# Altium footprint library HUD-LED-V3.2.PcbLib: 30 footprints (part 2 of 2)
Each footprint in its own frame and in the unit in brackets; x right, y up, seen from the top. Pads: shape width x height; smd on the part's side, far side on the other; paste and mask are expansions set on the pad; w line width, h text height; cw(c..) or ccw(c..) is an arc to the next point about the centre after c.
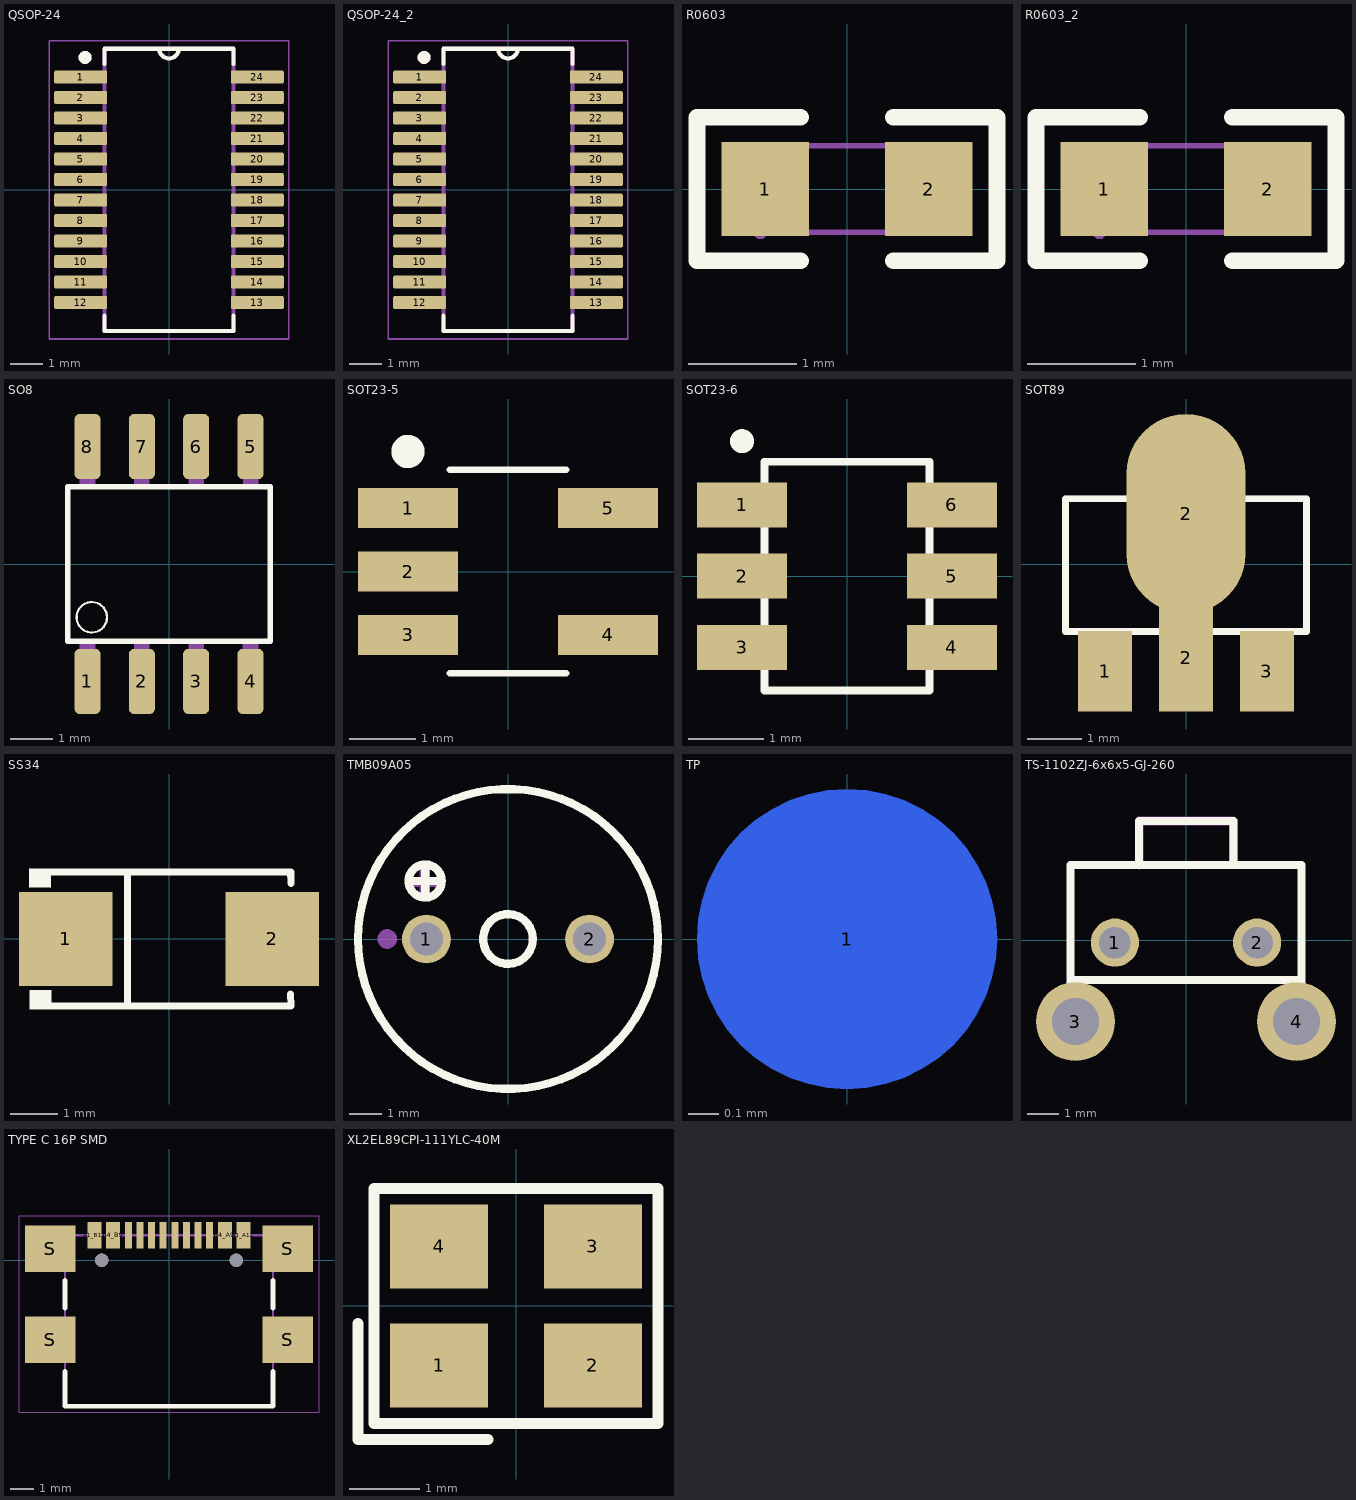
[diagram p1: the footprints below, top view; thin cyan lines are the x and y axes]

## QSOP-24 [mm]
pads (24):
  rrect25% 1.64x0.41 smd: 1(-2.735,3.492) 2(-2.735,2.857) 3(-2.735,2.222) 4(-2.735,1.587) 5(-2.735,0.953) 6(-2.735,0.318) 7(-2.735,-0.318) 8(-2.735,-0.953) 9(-2.735,-1.587) 10(-2.735,-2.222) 11(-2.735,-2.857) 12(-2.735,-3.492) 13(2.735,-3.492) 14(2.735,-2.857) 15(2.735,-2.222) 16(2.735,-1.587) 17(2.735,-0.953) 18(2.735,-0.318) 19(2.735,0.318) 20(2.735,0.953) 21(2.735,1.587) 22(2.735,2.222) 23(2.735,2.857) 24(2.735,3.492)
Top Overlay:
  circle w0.2: c-2.6,4.1 r0.1
  lines w0.127: -1.995,-3.9 -1.995,-4.37 1.995,-4.37 1.995,-3.9 ; -1.995,3.9 -1.995,4.37 1.995,4.37 1.995,3.9 ; -0.301,4.37 ccw(c0,4.37) 0.301,4.37
Mechanical 13:
  circle w0.2: c-2.6,4.1 r0.1
  lines w0.127: -1.995,-4.37 -1.995,4.37 1.995,4.37 1.995,-4.37 -1.995,-4.37
Mechanical 15:
  lines w0.05: -3.705,-4.62 -3.705,4.62 3.705,4.62 3.705,-4.62 -3.705,-4.62
3D body "step_temp.STEP": height 1.75, standoff 0, extent -3.01,-4.325 3.01,4.325

## QSOP-24_2 [mm]
pads (24):
  rrect25% 1.64x0.41 smd: 1(-2.735,3.492) 2(-2.735,2.857) 3(-2.735,2.222) 4(-2.735,1.587) 5(-2.735,0.953) 6(-2.735,0.318) 7(-2.735,-0.318) 8(-2.735,-0.953) 9(-2.735,-1.587) 10(-2.735,-2.222) 11(-2.735,-2.857) 12(-2.735,-3.492) 13(2.735,-3.492) 14(2.735,-2.857) 15(2.735,-2.222) 16(2.735,-1.587) 17(2.735,-0.953) 18(2.735,-0.318) 19(2.735,0.318) 20(2.735,0.953) 21(2.735,1.587) 22(2.735,2.222) 23(2.735,2.857) 24(2.735,3.492)
Top Overlay:
  circle w0.2: c-2.6,4.1 r0.1
  lines w0.127: -1.995,-3.9 -1.995,-4.37 1.995,-4.37 1.995,-3.9 ; -1.995,3.9 -1.995,4.37 1.995,4.37 1.995,3.9 ; -0.301,4.37 ccw(c0,4.37) 0.301,4.37
Mechanical 13:
  circle w0.2: c-2.6,4.1 r0.1
  lines w0.127: -1.995,-4.37 1.995,-4.37 1.995,4.37 -1.995,4.37 -1.995,-4.37
Mechanical 15:
  lines w0.05: -3.705,-4.62 3.705,-4.62 3.705,4.62 -3.705,4.62 -3.705,-4.62
3D body "step_temp.STEP": height 1.75, standoff 0, extent -3.01,-4.325 3.01,4.325

## R0603 [mm]
pads (2):
  rect 0.806x0.864 smd paste-100 mask+0.051: 1(-0.753,0) 2(0.753,0)
Top Overlay:
  lines w0.152: -0.426,-0.661 -1.385,-0.661 -1.385,0.661 -0.426,0.661 ; 0.426,-0.661 1.385,-0.661 1.385,0.661 0.426,0.661
Top Paste:
  region: -1.195,-0.45 -0.395,-0.45 -0.345,-0.4 -0.345,-0.172 -0.715,-0.172 -0.715,0.158 -0.345,0.158 -0.345,0.4 -0.395,0.45 -1.195,0.45 -1.245,0.4 -1.245,-0.4
  region: 1.195,0.45 0.395,0.45 0.345,0.4 0.345,0.172 0.715,0.172 0.715,-0.158 0.345,-0.158 0.345,-0.4 0.395,-0.45 1.195,-0.45 1.245,-0.4 1.245,0.4
Mechanical 15:
  region: -0.74,-0.4 -0.74,-0.425 -0.775,-0.46 -0.825,-0.46 -0.86,-0.425 -0.86,-0.4 -0.86,-0.375 -0.825,-0.34 -0.775,-0.34 -0.74,-0.375
  region: 0.8,-0.4 0.8,0.4 0.5,0.4 0.5,-0.4
  region: -0.8,-0.4 -0.8,0.4 -0.5,0.4 -0.5,-0.4
  lines w0.051: -0.8,-0.4 0.8,-0.4 0.8,0.4 -0.8,0.4 -0.8,-0.4
3D body "R0603.step": height 0.45, standoff 0, extent -0.8,-0.4 0.8,0.4

## R0603_2 [mm]
pads (2):
  rect 0.806x0.864 smd paste-100 mask+0.051: 1(-0.753,0) 2(0.753,0)
Top Overlay:
  lines w0.152: -0.426,-0.661 -1.385,-0.661 -1.385,0.661 -0.426,0.661 ; 0.426,-0.661 1.385,-0.661 1.385,0.661 0.426,0.661
Top Paste:
  region: 1.195,0.45 0.395,0.45 0.345,0.4 0.345,0.172 0.715,0.172 0.715,-0.158 0.345,-0.158 0.345,-0.4 0.395,-0.45 1.195,-0.45 1.245,-0.4 1.245,0.4
  region: -1.195,-0.45 -0.395,-0.45 -0.345,-0.4 -0.345,-0.172 -0.715,-0.172 -0.715,0.158 -0.345,0.158 -0.345,0.4 -0.395,0.45 -1.195,0.45 -1.245,0.4 -1.245,-0.4
Mechanical 15:
  region: -0.8,-0.4 -0.8,0.4 -0.5,0.4 -0.5,-0.4
  region: 0.8,-0.4 0.8,0.4 0.5,0.4 0.5,-0.4
  region: -0.74,-0.4 -0.74,-0.425 -0.775,-0.46 -0.825,-0.46 -0.86,-0.425 -0.86,-0.4 -0.86,-0.375 -0.825,-0.34 -0.775,-0.34 -0.74,-0.375
  lines w0.051: -0.8,-0.4 -0.8,0.4 0.8,0.4 0.8,-0.4 -0.8,-0.4
3D body "R0603.step": height 0.45, standoff 0, extent -0.8,-0.4 0.8,0.4

## SO8 [mil]
pads (8):
  rrect40% 24x60 smd: 1(-75,-108) 2(-25,-108) 3(25,-108) 4(75,-108) 5(75,108) 6(25,108) 7(-25,108) 8(-75,108)
Top Overlay:
  circle w2: c-71,-49 r14
  lines w5: -93,-71 93,-71 93,71 -93,71 -93,-71
Mechanical 13:
  region: -68,-113.07 -82.04,-113.07 -82.04,-73 -68,-73
  region: -18,-113.21 -32.01,-113.21 -32.01,-73 -18,-73
  region: 32,-113.06 18.02,-113.06 18.02,-73 32,-73
  region: 82,-113.01 68.01,-113.01 68.01,-73 82,-73
  region: -68,73.12 -82.09,73.12 -82.09,113 -68,113
  region: -18,73.08 -32.01,73.08 -32.01,113 -18,113
  region: 32,73.04 18.02,73.04 18.02,113 32,113
  region: 82,73.07 68.09,73.07 68.09,113 82,113
3D body "TJA1020.STEP": height 68.9, standoff 0, extent -96.47,-118.11 96.45,118.11

## SOT23-5 [mm]
pads (5):
  rect 1.5x0.6 smd: 1(-1.5,0.95) 2(-1.5,0) 3(-1.5,-0.95) 4(1.5,-0.95) 5(1.5,0.95)
Top Overlay:
  circle w0.25: c-1.5,1.8 r0.125
  lines w0.1: -0.875,-1.525 0.875,-1.525 ; -0.875,1.525 0.875,1.525
3D body: height 0.15, standoff 0, extent 1.219,-1.168 1.753,-0.711
3D body: height 0.9, standoff 0, extent 1.092,-1.168 1.219,-0.711
3D body: height 0.9, standoff 0.75, extent 0.813,-1.168 1.092,-0.711
3D body: height 0.15, standoff 0, extent 1.219,0.732 1.753,1.189
3D body: height 0.9, standoff 0, extent 1.092,0.732 1.219,1.189
3D body: height 0.9, standoff 0.75, extent 0.813,0.732 1.092,1.189
3D body: height 0.15, standoff 0, extent -1.753,-1.189 -1.219,-0.732
3D body: height 0.9, standoff 0, extent -1.219,-1.189 -1.092,-0.732
3D body: height 0.9, standoff 0.75, extent -1.092,-1.189 -0.813,-0.732
3D body: height 0.15, standoff 0, extent -1.753,-0.239 -1.219,0.218
3D body: height 0.9, standoff 0, extent -1.219,-0.239 -1.092,0.218
3D body: height 0.9, standoff 0.75, extent -1.092,-0.239 -0.813,0.218
3D body: height 1.45, standoff 0, extent -0.875,-1.525 0.875,1.525
3D body: height 0.9, standoff 0.75, extent -1.092,0.711 -0.813,1.168
3D body: height 0.9, standoff 0, extent -1.219,0.711 -1.092,1.168
3D body: height 0.15, standoff 0, extent -1.753,0.711 -1.219,1.168

## SOT23-6 [mm]
pads (6):
  rect 1.2x0.6 smd: 1(-1.4,0.95) 2(-1.4,0) 3(-1.4,-0.95) 4(1.4,-0.95) 5(1.4,0) 6(1.4,0.95)
Top Overlay:
  circle w0.17: c-1.4,1.8 r0.075
  lines w0.102: -1.1,-1.524 1.1,-1.524 1.1,1.524 -1.1,1.524 -1.1,-1.524
3D body "MP1470GJ-Z.STEP": height 1, standoff 0, extent -1.4,-1.45 1.4,1.45

## SOT89 [mm]
pads (4):
  rect 1x1.5 smd paste-2 mask+0: 1(-1.499,-1.981) 3(1.499,-1.981)
  rect 1x2 smd paste-2 mask+0: 2(0,-1.727)
  oval 2.2x3.7 smd paste-3: 2(0,0.94)
Top Overlay:
  lines w0.127: -2.235,-1.245 2.235,-1.245 2.235,1.219 -2.235,1.219 -2.235,-1.245
Top Paste:
  region: 0.9,0 -0.9,0 -0.9,2.2 0.9,2.2
  region: -1.1,-2.68 -1.9,-2.68 -1.9,-1.28 -1.1,-1.28
  region: 1.9,-2.68 1.1,-2.68 1.1,-1.28 1.9,-1.28
  region: 0.4,-2.68 -0.4,-2.68 -0.4,-1.28 0.4,-1.28
Top Solder:
  region: 0.525,-2.775 -0.525,-2.775 -0.525,-1.2 0.525,-1.2
  region: 2.025,-2.775 0.975,-2.775 0.975,-1.2 2.025,-1.2
  region: -0.975,-2.775 -2.025,-2.775 -2.025,-1.2 -0.975,-1.2
Mechanical 13:
  region: 0.787,1.575 0.787,1.295 -0.787,1.295 -0.787,1.321 -0.787,1.575 -0.356,2.007 0.356,2.007
  region: 0.279,-2.108 -0.279,-2.108 -0.279,-1.27 0.279,-1.27
  region: 1.727,-2.108 1.27,-2.108 1.27,-1.27 1.727,-1.27
  region: -1.27,-2.108 -1.727,-2.108 -1.727,-1.27 -1.27,-1.27
  lines w0.127: -2.235,-1.245 2.235,-1.245 ; -2.235,1.219 2.235,1.219
  lines w0.2: -0.787,1.295 -0.787,1.575 -0.356,2.007 0.356,2.007 0.787,1.575 0.787,1.295 -0.787,1.295
3D body "HT7550-1-SOT89--3DModel-STEP-269445.STEP": height 1.6, standoff 0, extent -2.25,-2.267 2.25,1.828

## SS34 [mm]
pads (2):
  rect 2x2 smd paste+0 mask+0.051: 1(-2.2,0) 2(2.2,0)
Top Overlay:
  region: -2.52,1.502 -2.521,1.096 -2.981,1.1 -2.977,1.502
  region: -2.512,-1.096 -2.513,-1.503 -2.973,-1.498 -2.969,-1.096
  lines w0.152: -2.596,-1.426 2.596,-1.426 ; -2.596,1.426 2.596,1.426 2.603,1.187 ; -0.884,-1.426 -0.884,1.426 ; 2.593,-1.176 2.6,-1.415
Mechanical 15:
  region: -2.317,-0.101 -2.317,0.101 -1.507,0.101 -1.507,-0.101
  region: 2.29,-0.09 2.29,0.112 1.48,0.112 1.48,-0.09
  region: 2.014,-0.675 2.014,0.675 1.811,0.675 1.811,-0.675
3D body "SS34A.STEP": height 2.63, standoff 0, extent -2.646,-1.29 2.494,1.27

## TMB09A05 [mm]
pads (2):
  round 1.5 hole 1 paste-2539.97 mask+0.051: 1(-2.5,0) 2(2.5,0)
Top Overlay:
  circle w0.254: c-2.54,1.778 r0.508
  circle w0.254: c0,0 r0.762
  circle w0.254: c0,0 r4.6
  lines w0.254: -3.048,1.778 -2.032,1.778 ; -2.54,1.27 -2.54,2.286
Mechanical 15:
  circle w0.3: c-3.703,0 r0.15
  region: -3.1,1.6 -3.1,1.9 -2,1.9 -2,1.6
  region: -2.7,1.3 -2.7,2.2 -2.4,2.2 -2.4,1.3
3D body "KLS3-MT-09.step": height 4.1, standoff -5.5, extent -4.5,-4.525 4.5,4.475

## TP [mm]
pads (1):
  round 1 smd far side paste+0 mask+0.051: 1(0,0)

## TS-1102ZJ-6x6x5-GJ-260 [mm]
pads (4):
  round 1.524 hole 1 paste-2539.97 mask+0.051: 1(-2.25,-0.068) 2(2.25,-0.068)
  round 2.5 hole 1.5 paste-2539.97 mask+0.051: 3(-3.5,-2.568) 4(3.5,-2.568)
Top Overlay:
  lines w0.254: -3.65,-1.447 -3.65,2.382 3.65,2.382 3.65,-1.447 ; -3.65,-1.257 3.65,-1.257 ; -1.488,2.383 -1.488,3.783 1.499,3.783 ; 1.499,3.783 1.499,2.383 1.499,3.783
Mechanical 15:
  region: -1.488,2.256 -1.513,2.256 -1.56,2.275 -1.596,2.311 -1.615,2.358 -1.615,2.383 -1.615,3.783 -1.615,3.808 -1.596,3.855 -1.56,3.89 -1.513,3.91 -1.488,3.91 1.499,3.91 1.524,3.91 1.571,3.89 1.607,3.855 1.626,3.808 1.626,3.783 1.626,2.383 1.624,2.408 1.605,2.454 1.57,2.489 1.524,2.508 1.499,2.51 1.474,2.508 1.429,2.489 1.394,2.454 1.375,2.408 1.372,2.383 1.372,3.656 -1.361,3.656 -1.361,2.383 -1.361,2.358 -1.38,2.311 -1.416,2.275 -1.463,2.256
3D body "Tact Switch 6x6 mm Right Angled fun.stp": height 7.26, standoff -3.44, extent -4.2,-4.683 4.2,8.382

## TYPE C 16P SMD [mm]
pads (18):
  rect 0.6x1.15 smd: A1_B12(-3.2,1.075) A4_B9(-2.4,1.075) B1_A12(3.2,1.075) B4_A9(2.4,1.075)
  rect 0.3x1.15 smd: A5(-1.25,1.075) A6(-0.25,1.075) A7(0.25,1.075) A8(1.25,1.075) B5(1.75,1.075) B6(0.75,1.075) B7(-0.75,1.075) B8(-1.75,1.075)
  rect 2.18x2 smd: S(-5.11,-3.43) S(-5.11,0.5) S(5.11,-3.43) S(5.11,0.5)
  round 0.57 / inner round 0 / far side round 0.57 hole 0.57 mask+0.102: ""(-2.89,0)
  round 0.57 hole 0.57 mask+0.102: ""(2.89,0)
Top Overlay:
  lines w0.2: -4.47,-4.79 -4.47,-6.28 4.47,-6.28 4.47,-4.79 ; -4.47,-2.07 -4.47,-0.86 ; 4.47,-2.07 4.47,-0.86
Mechanical 13:
  lines w0.1: -4.47,-6.28 -4.47,1.07 4.47,1.07 4.47,-6.28 -4.47,-6.28
Mechanical 15:
  lines w0.05: -6.45,-6.53 6.45,-6.53 6.45,1.9 -6.45,1.9 -6.45,-6.53
3D body "step_temp.STEP": height 3.26, standoff -0.63, extent -5.65,-6.28 5.65,1.42

## XL2EL89CPI-111YLC-40M [mm]
pads (4):
  rect 1.4x1.2 smd paste+0 mask+0.051: 1(-1.1,-0.85) 2(1.1,-0.85) 3(1.1,0.85) 4(-1.1,0.85)
Top Overlay:
  lines w0.152: -2.257,-0.25 -2.257,-1.907 -0.4,-1.907 ; -2.029,-1.679 -2.029,1.679 2.029,1.679 2.029,-1.679 -2.029,-1.679
Mechanical 15:
  circle w0.254: c-1.27,-0.889 r0.127
3D body "3225 SMD Crystal Oscillator.step": height 0.68, standoff -0.02, extent -1.6,-1.255 1.6,1.245